# Altium footprint library Buzzer.PcbLib: 1 footprints
Each footprint in its own frame and in the unit in brackets; x right, y up, seen from the top. Pads: shape width x height; smd on the part's side, far side on the other; paste and mask are expansions set on the pad; w line width, h text height; cw(c..) or ccw(c..) is an arc to the next point about the centre after c.
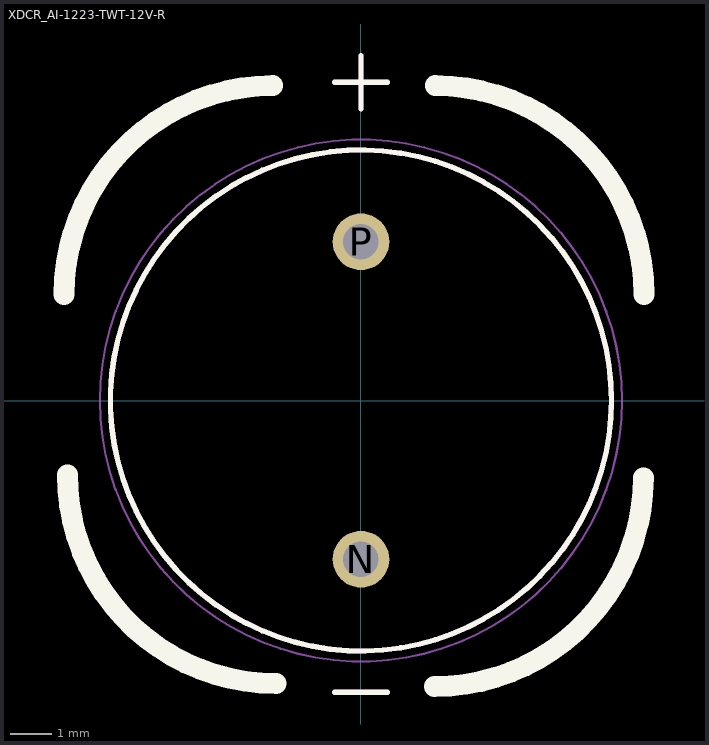
[diagram p0: the footprint, top view; thin cyan lines are the x and y axes]

## XDCR_AI-1223-TWT-12V-R [mm]
height 9.7
pads (2):
  round 1.358 hole 0.85: N(0,-3.8) P(0,3.8)
Top Overlay:
  circle w0.127: c0,0 r6
  lines w0.127: -0.635,-6.985 0.635,-6.985 ; -0.635,7.62 0.635,7.62 ; 0,6.985 0,8.255
  lines w0.5: -7.112,2.54 cw(c-2.112,2.54) -2.112,7.54 ; -7.032,-1.778 ccw(c-2.032,-1.778) -2.032,-6.778 ; 1.762,-6.85 ccw(c1.762,-1.85) 6.762,-1.85 ; 1.778,7.54 cw(c1.778,2.54) 6.778,2.54
Mechanical 13:
  circle w0.127: c0,0 r6
  lines w0.127: -0.635,-6.985 0.635,-6.985 ; -0.635,7.62 0.635,7.62 ; 0,6.985 0,8.255
Mechanical 15:
  circle w0.05: c0,0 r6.25
3D body "step_temp.STEP": height 9.56, standoff -5.99, extent -6,-6 5.998,7.44